# EAGLE library part TC44 (library Microchip-TC44xx)
IC, MOSFET DRIVER, LOW-SIDE,SOIC-16 Wide
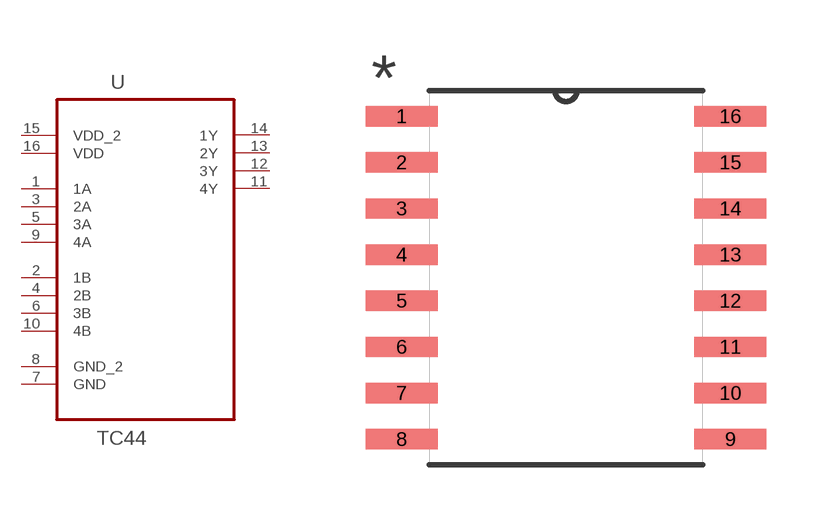
[diagram p0: symbol with the pads of SOIC127P1030X265-16N; footprint SOIC127P1030X265-16N]

Designator prefix U

## TC4467EOE (MPN: TC4467EOE; OC_FARNELL: 1852210; OC_NEWARK: 56J8343; PACKAGE: SOIC-16 Wide; SUPPLIER: MICROCHIP), TC4468EOE (MPN: TC4468EOE; OC_FARNELL: 1840858; OC_NEWARK: 56J8344; PACKAGE: SOIC-16 Wide; SUPPLIER: MICROCHIP), TC4469COE (MPN: TC4469COE; OC_FARNELL: 1292288; OC_NEWARK: 92C6158; PACKAGE: SOIC-16 Wide; SUPPLIER: MICROCHIP)  [SOIC127P1030X265-16N]
1  1A  in
2  1B  in
3  2A  in
4  2B  in
5  3A  in
6  3B  in
7  GND  pas
8  GND_2  pas
9  4A  in
10  4B  in
11  4Y  out
12  3Y  out
13  2Y  out
14  1Y  out
15  VDD_2  pwr
16  VDD  pwr

## Footprint SOIC127P1030X265-16N (pad centres in mm)
smd 1.981 x 0.559: 1 -4.521,4.445; 2 -4.521,3.175; 3 -4.521,1.905; 4 -4.521,0.635; 5 -4.521,-0.635; 6 -4.521,-1.905; 7 -4.521,-3.175; 8 -4.521,-4.445; 9 4.521,-4.445; 10 4.521,-3.175; 11 4.521,-1.905; 12 4.521,-0.635; 13 4.521,0.635; 14 4.521,1.905; 15 4.521,3.175; 16 4.521,4.445